# Altium schematic symbol library ERJ-8ENF4700V.SchLib: 1 symbol
Pins are listed as number, name and electrical type; pins without a type are passive.

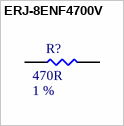
[diagram p0: symbol ERJ-8ENF4700V]

## ERJ-8ENF4700V
designator R?  Tolerance: 1 %  Resistance: 470R  (hidden comment: ERJ-8ENF4700V)
RES SMD 470 OHM 1% 1/4W 1206; MFR: Panasonic; Qualifications: AEC-Q200; ComponentLink1Description: Datasheet; ComponentLink1URL: https://www.mouser.ca/datasheet/2/315/AOA0000C304-1149620.pdf; PN: ERJ-8ENF4700V; Footprint: RES1206; Power Rating: 1/4W; Package: 1206; Supplier 1: Digi-Key; Supplier Part Number 1: P470FCT-ND
footprint RES1206 (Generic 1206 PCB Footprint)
pins: 1, 2